# EAGLE library part 618044330923 (library USB3IO)
WR-DSUB Female High Density Angled PCB Connector with Hex Screw, 44 Pins=>Code : Con_I-O_DSUB_PCB_Female_w-screw_618044330923 <http://katalog.we-online.de/media/images/eican/Con_I-O_DSUB_PCB_Female_w-screw_6180xx330923_pf2.jpg> Details see: http://katalog.we-online.de/en/em/618_0xx_330_923 Created 2014-07-10, Karrer Zheng 2014 (C) Würth Elektronik
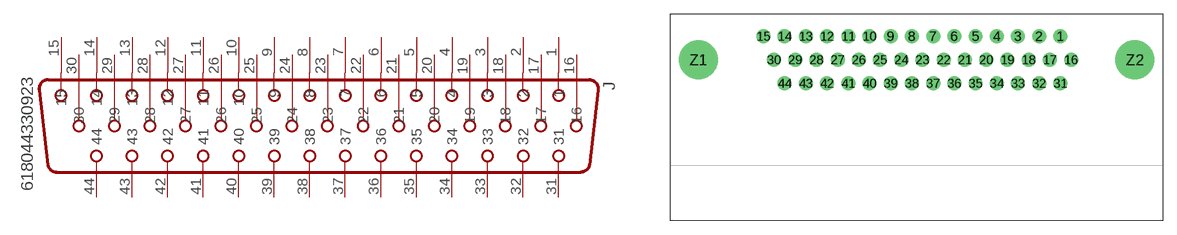
[diagram p58: symbol with the pads of 618044330923; footprint 618044330923]

Designator prefix J

## 618044330923  [618044330923]
1  1
2  2
3  3
4  4
5  5
6  6
7  7
8  8
9  9
10  10
11  11
12  12
13  13
14  14
15  15
16  16
17  17
18  18
19  19
20  20
21  21
22  22
23  23
24  24
25  25
26  26
27  27
28  28
29  29
30  30
31  31
32  32
33  33
34  34
35  35
36  36
37  37
38  38
39  39
40  40
41  41
42  42
43  43
44  44

## Footprint 618044330923 (pad centres in mm)
WR-DSUB Female High Density Angled PCB Connector with Hex Screw, 44 Pins
drill 1: 1 15.525,2.54; 2 13.235,2.54; 3 10.945,2.54; 4 8.655,2.54; 5 6.365,2.54; 6 4.075,2.54; 7 1.785,2.54; 8 -0.505,2.54; 9 -2.795,2.54; 10 -5.085,2.54; 11 -7.375,2.54; 12 -9.665,2.54; 13 -11.955,2.54; 14 -14.245,2.54; 15 -16.535,2.54; 16 16.67,0; 17 14.38,0; 18 12.09,0; 19 9.8,0; 20 7.51,0; 21 5.22,0; 22 2.93,0; 23 0.64,0; 24 -1.65,0; 25 -3.94,0; 26 -6.23,0; 27 -8.52,0; 28 -10.81,0; 29 -13.1,0; 30 -15.39,0; 31 15.525,-2.54; 32 13.235,-2.54; 33 10.945,-2.54; 34 8.655,-2.54; 35 6.365,-2.54; 36 4.075,-2.54; 37 1.785,-2.54; 38 -0.505,-2.54; 39 -2.795,-2.54; 40 -5.085,-2.54; 41 -7.375,-2.54; 42 -9.665,-2.54; 43 -11.955,-2.54; 44 -14.245,-2.54
drill 3.2: Z1 -23.55,0; Z2 23.55,0